# Altium footprint library CAPC2012X125D.PcbLib: 3 footprints
Each footprint in its own frame and in the unit in brackets; x right, y up, seen from the top. Pads: shape width x height; smd on the part's side, far side on the other; paste and mask are expansions set on the pad; w line width, h text height; cw(c..) or ccw(c..) is an arc to the next point about the centre after c.
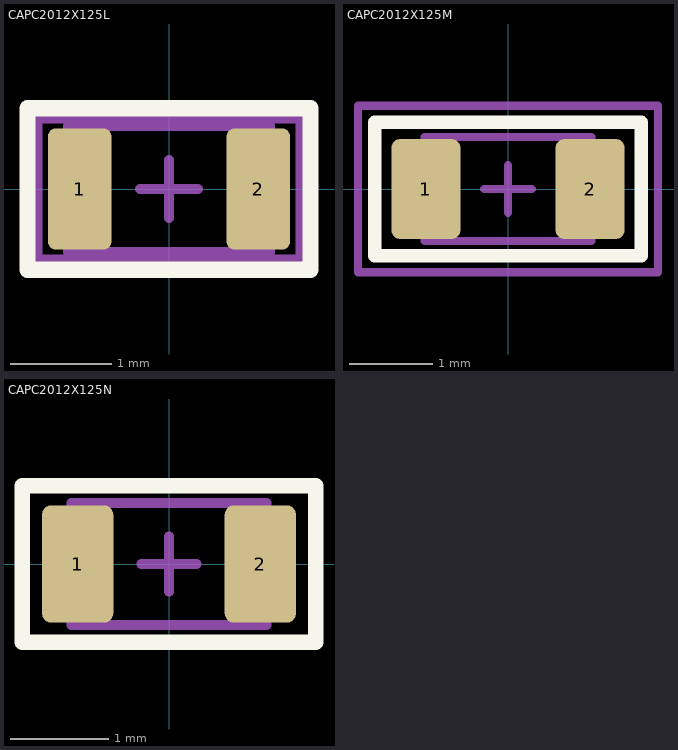
[diagram p0: the footprints below, top view; thin cyan lines are the x and y axes]

## CAPC2012X125L [mm] "Capacitors, Chip, Non-polarized"
height 1.5
pads (2):
  rrect25% 0.63x1.2 smd: 1(-0.885,0) 2(0.885,0)
Top Overlay:
  lines w0.16: -1.4,-0.8 1.4,-0.8 1.4,0.8 -1.4,0.8 -1.4,-0.8
Top Component Center:
  lines w0.1: -0.285,0 0.285,0 ; 0,-0.285 0,0.285
Top Courtyard:
  lines w0.1: -1.3,-0.7 1.3,-0.7 1.3,0.7 -1.3,0.7 -1.3,-0.7
Top Assembly:
  lines w0.1: -1,-0.625 1,-0.625 1,0.625 -1,0.625 -1,-0.625
  text ".Designator" at 0,0 h1
3D body "CAPC2012X125L.STEP": height 1.25, standoff 0, extent -1,-0.625 1,0.625

## CAPC2012X125M [mm] "Capacitors, Chip, Non-polarized"
height 1.5
pads (2):
  rrect25% 0.83x1.2 smd: 1(-0.985,0) 2(0.985,0)
Top Overlay:
  lines w0.16: -1.6,-0.8 1.6,-0.8 1.6,0.8 -1.6,0.8 -1.6,-0.8
Top Component Center:
  lines w0.1: -0.285,0 0.285,0 ; 0,-0.285 0,0.285
Top Courtyard:
  lines w0.1: -1.8,-1 1.8,-1 1.8,1 -1.8,1 -1.8,-1
Top Assembly:
  lines w0.1: -1,-0.625 1,-0.625 1,0.625 -1,0.625 -1,-0.625
  text ".Designator" at 0,0 h1
3D body "CAPC2012X125M.STEP": height 1.25, standoff 0, extent -1,-0.625 1,0.625

## CAPC2012X125N [mm] "Capacitors, Chip, Non-polarized"
height 1.5
pads (2):
  rrect25% 0.73x1.2 smd: 1(-0.935,0) 2(0.935,0)
Top Overlay:
  lines w0.16: -1.5,-0.8 1.5,-0.8 1.5,0.8 -1.5,0.8 -1.5,-0.8
Top Component Center:
  lines w0.1: -0.285,0 0.285,0 ; 0,-0.285 0,0.285
Top Courtyard:
  lines w0.1: -1.5,-0.8 1.5,-0.8 1.5,0.8 -1.5,0.8 -1.5,-0.8
Top Assembly:
  lines w0.1: -1,-0.625 1,-0.625 1,0.625 -1,0.625 -1,-0.625
  text ".Designator" at 0,0 h1
3D body "CAPC2012X125N.STEP": height 1.25, standoff 0, extent -1,-0.625 1,0.625